# Altium footprint library Bridge Rectifiers.PcbLib: 37 footprints (part 2 of 3)
Each footprint in its own frame and in the unit in brackets; x right, y up, seen from the top. Pads: shape width x height; smd on the part's side, far side on the other; paste and mask are expansions set on the pad; w line width, h text height; cw(c..) or ccw(c..) is an arc to the next point about the centre after c.
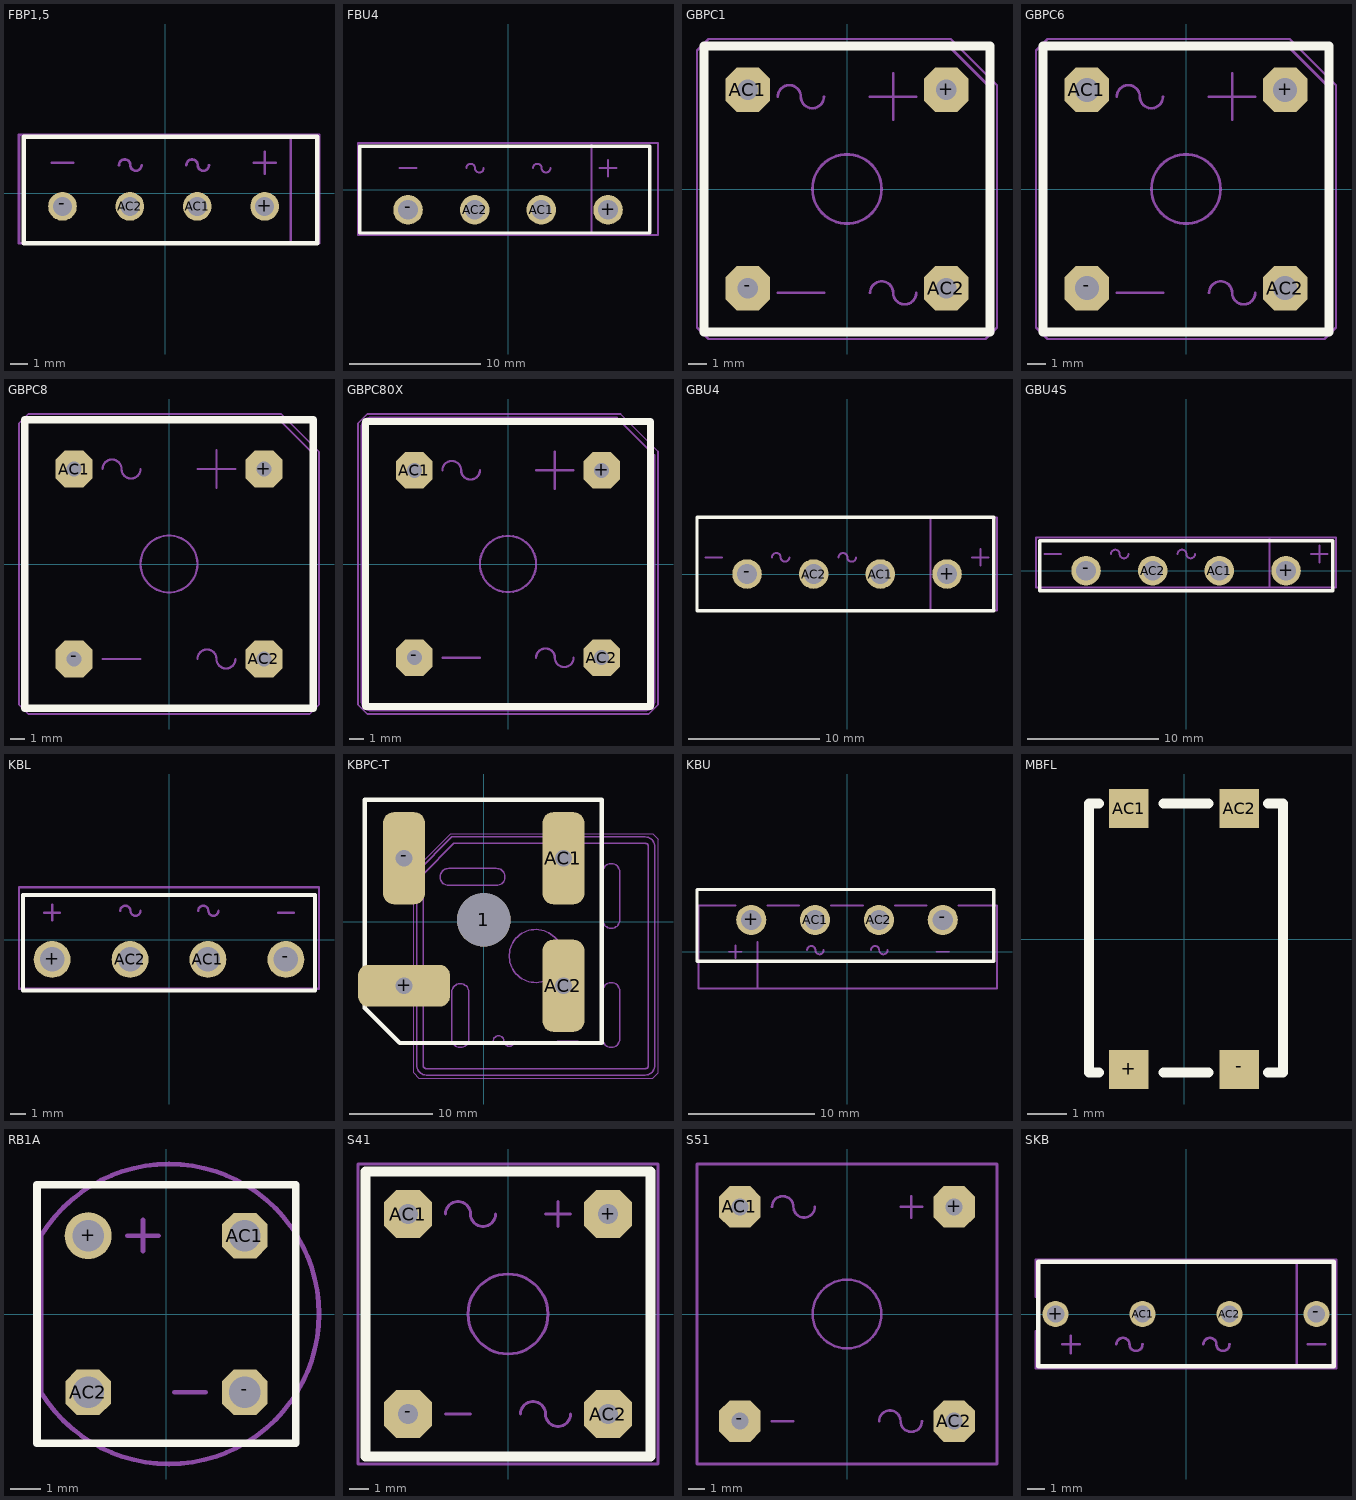
[diagram p1: the footprints below, top view; thin cyan lines are the x and y axes]

## FBP1,5 [mil]
pads (4):
  round 66 / inner round 60 / far side round 66 hole 44: +(228.78,-30.32) -(-236.22,-30.32) AC1(73.78,-30.32) AC2(-81.22,-30.32)
Top Overlay:
  lines w10: -325,-115 -325,130 350,130 350,-115 -325,-115
Mechanical 22:
  lines w6: -261.22,69.69 -211.22,69.69 ; -106.22,64.69 cw(c-93.22,64.69) -80.22,64.69 ccw(c-67.22,64.69) -54.22,64.69 ; 48.78,64.69 cw(c61.78,64.69) 74.78,64.69 ccw(c87.78,64.69) 100.78,64.69 ; 203.78,69.69 253.78,69.69 ; 228.78,44.69 228.78,94.69 ; 288.78,-115.32 -336.22,-115.32 -336.22,134.69 288.78,134.69 ; 288.78,-115.32 288.78,134.69 ; 288.78,-115.32 353.78,-115.32 353.78,134.69 288.78,134.69

## FBU4 [mil]
pads (4):
  round 88.5 / inner round 60 / far side round 88.5 hole 59: +(300,-60.63) -(-300,-60.63) AC1(100,-60.63) AC2(-100,-60.63)
Top Overlay:
  lines w10: -445,-130 -445,130 425,130 425,-130 -445,-130
Mechanical 8:
  lines w6: 250,-110.63 250,-10.63
Mechanical 22:
  lines w6: -325,64.37 -275,64.37 ; -125,64.37 cw(c-112,64.37) -99,64.37 ccw(c-86,64.37) -73,64.37 ; 75,64.37 cw(c88,64.37) 101,64.37 ccw(c114,64.37) 127,64.37 ; 250,-110.63 250,-135.63 ; 250,-10.63 250,139.37 ; 275,64.37 325,64.37 ; 300,39.37 300,89.37 ; 250,-135.63 -450,-135.63 -450,139.37 250,139.37 ; 250,-135.63 450,-135.63 450,139.37 250,139.37

## GBPC1 [mil]
pads (4):
  oct 96.82x96.82 / inner oct 60x60 / far side oct 96.82x96.82 hole 44: +(215,215) -(-215,-215) AC1(-215,215) AC2(215,-215)
Top Overlay:
  lines w19.68: -310,-310 310,-310 310,310 -310,310 -310,-310
Mechanical 22:
  circle w6: c0,0 r75
  lines w6: -150,-225 -50,-225 ; -150,200 cw(c-125,200) -100,200 ccw(c-75,200) -50,200 ; 50,-225 cw(c75,-225) 100,-225 ccw(c125,-225) 150,-225 ; 50,200 150,200 ; 100,150 100,250 ; -315,-290 ccw(c-290,-290) -290,-315 290,-315 ccw(c290,-290) 315,-290 315,215 215,315 -290,315 ccw(c-290,290) -315,290 -315,-290
Mechanical 30:
  lines w5: -325,-300 -300,-325 300,-325 325,-300 325,225 225,325 -300,325 -325,300 -325,-300

## GBPC6 [mil]
pads (4):
  oct 96.82x96.82 / inner oct 60x60 / far side oct 96.82x96.82 hole 52: +(215,215) -(-215,-215) AC1(-215,215) AC2(215,-215)
Top Overlay:
  lines w19.68: -310,-310 310,-310 310,310 -310,310 -310,-310
Mechanical 22:
  circle w6: c0,0 r75
  lines w6: -150,-225 -50,-225 ; -150,200 cw(c-125,200) -100,200 ccw(c-75,200) -50,200 ; 50,-225 cw(c75,-225) 100,-225 ccw(c125,-225) 150,-225 ; 50,200 150,200 ; 100,150 100,250 ; -315,-290 ccw(c-290,-290) -290,-315 290,-315 ccw(c290,-290) 315,-290 315,215 215,315 -290,315 ccw(c-290,290) -315,290 -315,-290
Mechanical 30:
  lines w5: -325,-300 -325,300 -300,325 225,325 325,225 325,-300 300,-325 -300,-325 -325,-300

## GBPC8 [mil]
pads (4):
  oct 96.82x96.82 / inner oct 60x60 / far side oct 96.82x96.82 hole 40: +(250,250) -(-250,-250) AC1(-250,250) AC2(250,-250)
Top Overlay:
  lines w19.68: -380,-380 -380,380 380,380 380,-380 -380,-380
Mechanical 22:
  circle w6: c0,0 r75
  lines w6: -175,-250 -75,-250 ; -175,250 cw(c-150,250) -125,250 ccw(c-100,250) -75,250 ; 75,-250 cw(c100,-250) 125,-250 ccw(c150,-250) 175,-250 ; 75,250 175,250 ; 125,200 125,300 ; -385,-360 ccw(c-360,-360) -360,-385 360,-385 ccw(c360,-360) 385,-360 385,285 285,385 -360,385 ccw(c-360,360) -385,360 -385,-360
Mechanical 30:
  lines w5: -395,-370 -370,-395 370,-395 395,-370 395,295 295,395 -370,395 -395,370 -395,-370

## GBPC80X [mil]
pads (4):
  oct 96.82x96.82 / inner oct 60x60 / far side oct 96.82x96.82 hole 40: +(250,250) -(-250,-250) AC1(-250,250) AC2(250,-250)
Top Overlay:
  lines w19.68: -380,-380 -380,380 380,380 380,-380 -380,-380
Mechanical 22:
  circle w6: c0,0 r75
  lines w6: -175,-250 -75,-250 ; -175,250 cw(c-150,250) -125,250 ccw(c-100,250) -75,250 ; 75,-250 cw(c100,-250) 125,-250 ccw(c150,-250) 175,-250 ; 75,250 175,250 ; 125,200 125,300 ; -390,-365 ccw(c-365,-365) -365,-390 365,-390 ccw(c365,-365) 390,-365 390,290 290,390 -365,390 ccw(c-365,365) -390,365 -390,-365
Mechanical 30:
  lines w5: -400,-375 -400,375 -375,400 300,400 400,300 400,-375 375,-400 -375,-400 -400,-375

## GBU4 [mil]
pads (4):
  round 88.5 / inner round 60 / far side round 88.5 hole 59: +(300,0) -(-300,0) AC1(100,0) AC2(-100,0)
Top Overlay:
  lines w10: -450,-110 -450,170 440,170 440,-110 -450,-110
Mechanical 8:
  lines w6: 250,-55 250,55
Mechanical 22:
  lines w6: -425,50 -375,50 ; -225,50 cw(c-212,50) -199,50 ccw(c-186,50) -173,50 ; -25,50 cw(c-12,50) 1,50 ccw(c14,50) 27,50 ; 250,-55 250,-110 ; 250,55 250,170 ; 375,50 425,50 ; 400,25 400,75 ; 250,-110 450,-110 450,170 250,170 ; 250,-110 -450,-110 -450,170 250,170

## GBU4S [mil]
pads (4):
  round 88.5 / inner round 60 / far side round 88.5 hole 59: +(300,0) -(-300,0) AC1(100,0) AC2(-100,0)
Top Overlay:
  lines w10: -438.97,-60 440,-60 440,90 -438.97,90 -438.97,-60
Mechanical 8:
  lines w6: -350,-50 -250,-50 ; -150,-50 -50,-50 ; 50,-50 150,-50 ; 250,50 250,-50 350,-50
Mechanical 22:
  lines w6: -425,50 -375,50 ; -350,-50 -450,-50 -450,100 250,100 ; -250,-50 -150,-50 ; -225,50 cw(c-212,50) -199,50 ccw(c-186,50) -173,50 ; -50,-50 50,-50 ; -25,50 cw(c-12,50) 1,50 ccw(c14,50) 27,50 ; 150,-50 250,-50 ; 250,50 250,100 ; 350,-50 450,-50 450,100 250,100 ; 375,50 425,50 ; 400,25 400,75
3D body "GBU.step": height 820.08, standoff -137.8, extent -438.97,-55.11 438.98,85.05

## KBL [mil]
pads (4):
  round 94.5 / inner round 60 / far side round 94.5 hole 63: +(-300,-50) -(300,-50) AC1(100,-50) AC2(-100,-50)
Top Overlay:
  lines w10: -375,-130 375,-130 375,115 -375,115 -375,-130
Mechanical 22:
  lines w6: -320,70 -280,70 ; -300,50 -300,90 ; -125,75 cw(c-112,75) -99,75 ccw(c-86,75) -73,75 ; 75,75 cw(c88,75) 101,75 ccw(c114,75) 127,75 ; 280,70 320,70 ; -385,-125 -385,135 385,135 385,-125 -385,-125
3D body "KBL.step": height 620.08, standoff -177.17, extent -374.02,-133.66 374.01,112.42

## KBPC-T [mm]
pads (5):
  round 6.401 hole 6.401 unplated: 1(0,0.254)
  rrect50% 11x5 hole 2 square: +(-9.525,-7.62)
  rrect50% 5x11 hole 2 square: -(-9.525,7.62) AC1(9.525,7.62) AC2(9.525,-7.62)
Top Overlay:
  lines w0.5: -14.224,-10.287 -10.033,-14.478 14.097,-14.478 14.097,14.605 -14.224,14.605 -14.224,-10.287
Mechanical 22:
  circle w0.152: c6.223,-4.064 r3.175
  lines w0.152: -2.667,1.016 -0.127,1.016 ; -1.397,-0.254 -1.397,2.286 ; 1.143,-14.224 cw(c1.778,-14.224) 2.413,-14.224 ccw(c3.048,-14.224) 3.683,-14.224 ; 8.763,-14.224 11.303,-14.224 ; 8.763,6.096 cw(c9.398,6.096) 10.033,6.096 ccw(c10.668,6.096) 11.303,6.096 ; -8.001,-17.145 ccw(c-6.858,-17.145) -6.858,-18.288 19.304,-18.288 ccw(c19.304,-17.145) 20.447,-17.145 20.447,9.017 ccw(c19.304,9.017) 19.304,10.16 -3.81,10.16 -8.001,5.969 -8.001,-17.145 ; -7.239,-17.145 ccw(c-6.858,-17.145) -6.858,-17.526 19.304,-17.526 ccw(c19.304,-17.145) 19.685,-17.145 19.685,9.017 ccw(c19.304,9.017) 19.304,9.398 -3.556,9.398 -7.239,5.715 -7.239,-17.145
Mechanical 30:
  lines w0.127: -8.382,-18.034 -8.382,6.096 -3.937,10.541 20.193,10.541 20.828,9.906 20.828,-18.034 20.193,-18.669 -7.747,-18.669 -8.382,-18.034
Mechanical 34:
  lines w0.152: -4.191,4.369 cw(c-4.191,5.385) -4.191,6.401 1.524,6.401 cw(c1.524,5.385) 1.524,4.369 -4.191,4.369 ; -3.81,-13.97 ccw(c-2.794,-13.97) -1.778,-13.97 -1.778,-8.382 ccw(c-2.794,-8.382) -3.81,-8.382 -3.81,-13.97 ; 14.224,-13.97 ccw(c15.24,-13.97) 16.256,-13.97 16.256,-8.255 ccw(c15.24,-8.255) 14.224,-8.255 14.224,-13.97 ; 14.224,0.254 ccw(c15.24,0.254) 16.256,0.254 16.256,5.969 ccw(c15.24,5.969) 14.224,5.969 14.224,0.254
3D body "B25A.STEP": height 11.27, standoff -13.26, extent -14.276,-14.5 14.224,14.5

## KBU [mil]
pads (4):
  round 94.5 / inner round 60 / far side round 94.5 hole 63: +(-300,100) -(300,100) AC1(-100,100) AC2(100,100)
Top Overlay:
  lines w10: -470,-30 460,-30 460,195 -470,195 -470,-30
Mechanical 22:
  lines w6: -370,0 -330,0 ; -350,-20 -350,20 ; -350,145 -465,145 -465,-115 -280,-115 ; -280,30 -280,-115 ; -250,145 -150,145 ; -125,5 cw(c-112,5) -99,5 ccw(c-86,5) -73,5 ; -50,145 50,145 ; 75,5 cw(c88,5) 101,5 ccw(c114,5) 127,5 ; 150,145 250,145 ; 280,0 320,0 ; 350,145 470,145 470,-115 -280,-115
3D body "KBU-4A.step": height 760.34, standoff -78.24, extent -467.6,-30 457.6,194.41

## MBFL [mil]
pads (4):
  rect 39.37x39.37 smd: +(-55.5,-131) -(55.5,-131) AC1(-55.5,131) AC2(55.5,131)
Top Overlay:
  lines w10: -85.5,-134 -95.5,-134 -95.5,136 -85.5,136 ; -20.5,-134 24.5,-134 ; -20.5,136 24.5,136 ; 84.5,-134 99.5,-134 99.5,136 84.5,136
3D body "MBFL.STEP": height 57.09, standoff -3.15, extent -95.76,-136.92 100.84,134.74

## RB1A [mil]
pads (4):
  round 60 hole 40: +(-100,100)
  oct 58.09x58.09 / inner oct 60x60 / far side oct 58.09x58.09 hole 40: -(100,-100) AC1(100,100) AC2(-100,-100)
Top Overlay:
  lines w10: -165,-165 165,-165 165,165 -165,165 -165,-165
Mechanical 22:
  lines w6: -50,100 -10,100 ; -30,80 -30,120 ; 10,-100 50,-100 ; -160,-100 ccw(c3.28,0) -160,100 -160,-100

## S41 [mil]
pads (4):
  oct 96.82x96.82 / inner oct 60x60 / far side oct 96.82x96.82 hole 40: +(200,200) -(-200,-200) AC1(-200,200) AC2(200,-200)
Top Overlay:
  lines w19.68: -285,-285 -285,285 285,285 285,-285 -285,-285
Mechanical 22:
  circle w6: c0,0 r80
  lines w6: -125,-200 -75,-200 ; -125,200 cw(c-100,200) -75,200 ccw(c-50,200) -25,200 ; 25,-200 cw(c50,-200) 75,-200 ccw(c100,-200) 125,-200 ; 75,200 125,200 ; 100,175 100,225 ; -300,-300 300,-300 300,300 -300,300 -300,-300

## S51 [mil]
pads (4):
  oct 96.82x96.82 / inner oct 60x60 / far side oct 96.82x96.82 hole 40: +(250,250) -(-250,-250) AC1(-250,250) AC2(250,-250)
Mechanical 22:
  circle w6: c0,0 r80
  lines w6: -175,-250 -125,-250 ; -175,250 cw(c-150,250) -125,250 ccw(c-100,250) -75,250 ; 75,-250 cw(c100,-250) 125,-250 ccw(c150,-250) 175,-250 ; 125,250 175,250 ; 150,225 150,275 ; -350,-350 350,-350 350,350 -350,350 -350,-350

## SKB [mil]
pads (4):
  round 60 hole 40: +(-300,0) -(300,0) AC1(-100,0) AC2(100,0)
Top Overlay:
  lines w10: -340,-120 340,-120 340,120 -340,120 -340,-120
Mechanical 8:
  lines w6: 255,-40 255,40 ; 345,-40 345,40
Mechanical 22:
  lines w6: -345,-40 -345,-125 255,-125 ; -345,40 -345,125 255,125 ; -285,-70 -245,-70 ; -265,-90 -265,-50 ; -160,-70 cw(c-145,-70) -130,-70 ccw(c-115,-70) -100,-70 ; 40,-70 cw(c55,-70) 70,-70 ccw(c85,-70) 100,-70 ; 255,-40 255,-125 ; 255,40 255,125 ; 280,-70 320,-70 ; 345,-40 345,-125 255,-125 ; 345,40 345,125 255,125